# Altium schematic symbol library 151033RS03000.SchLib: 1 symbol
Pins are listed as number, name and electrical type; pins without a type are passive.

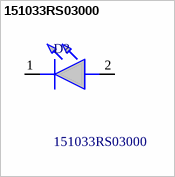
[diagram p0: symbol 151033RS03000]

## 151033RS03000
designator D?
WURTH ELEKTRONIK - 151033RS03000 - LED, Red, Through Hole, T-1 (3mm), 30 mA, 2 V, 621 nm; Geometry.Height: 10.9mm; Mouser Part Number: 710-151033RS03000; Mouser Price/Stock: https://www.mouser.co.uk/ProductDetail/Wurth-Elektronik/151033RS03000?qs=LlUlMxKIyB1%252BAw6bWFN43w%3D%3D; Manufacturer_Name: Wurth Elektronik; Manufacturer_Part_Number: 151033RS03000; Datasheet Link: https://www.we-online.com/katalog/datasheet/151033RS03000.pdf
footprint 151033RS03000
pins: 1 K, 2 A